# EAGLE library part XC2C256-VQ100 (library Xilinx)
*Xilinx XC2C256 Coolrunner II CPLD in a VQ100 package
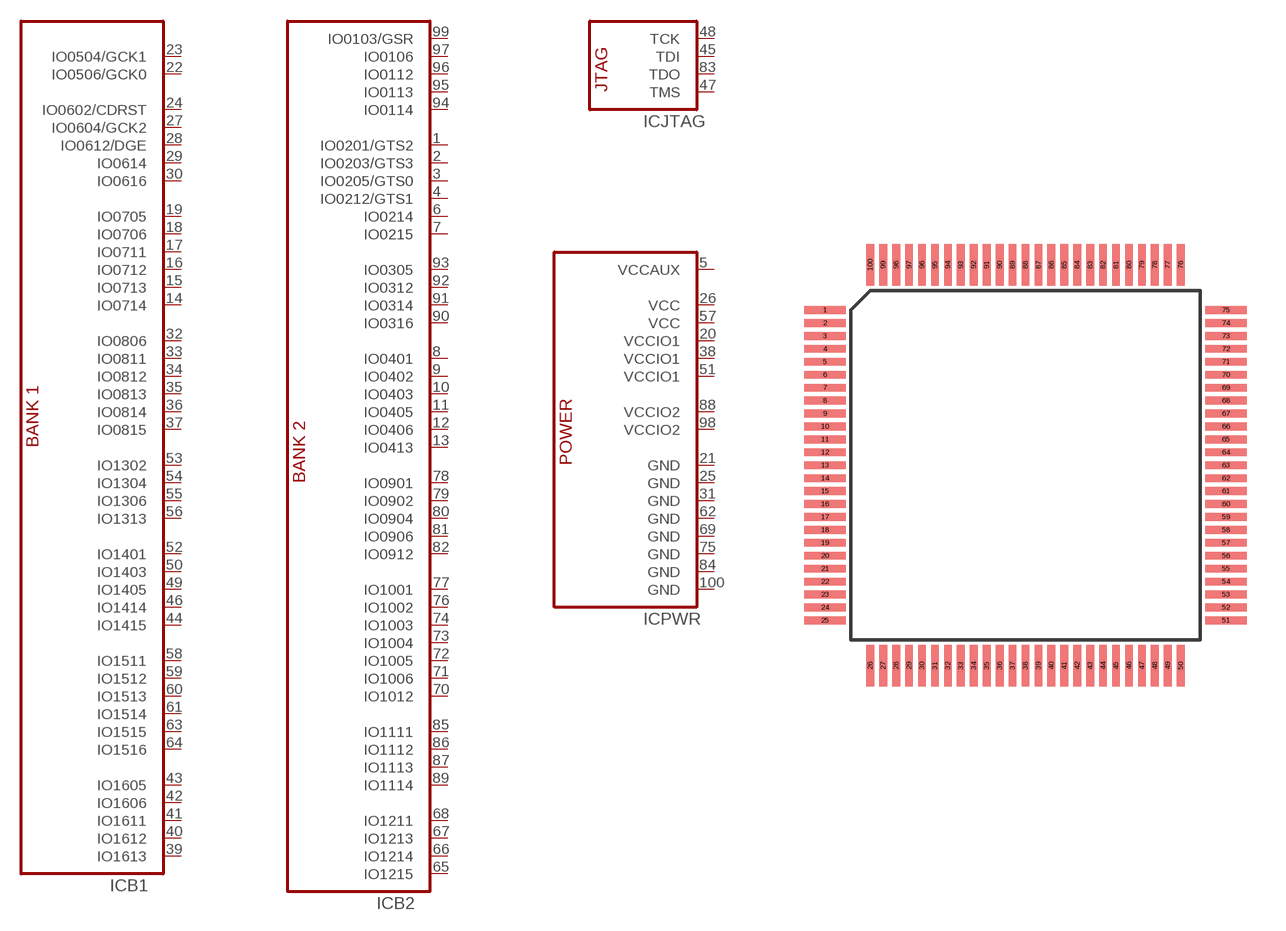
[diagram p38: symbol with the pads of VQ100; footprint VQ100]

Designator prefix IC; gates B1=XC2C256-VQ100_B1 B2=XC2C256-VQ100_B2 JTAG=XC2C256-VQ100_JTAG PWR=XC2C256-VQ100_PWR

## XC2C256-VQ100  [VQ100]
1  B2:IO0201/GTS2
2  B2:IO0203/GTS3
3  B2:IO0205/GTS0
4  B2:IO0212/GTS1
5  PWR:VCCAUX  pwr
6  B2:IO0214
7  B2:IO0215
8  B2:IO0401
9  B2:IO0402
10  B2:IO0403
11  B2:IO0405
12  B2:IO0406
13  B2:IO0413
14  B1:IO0714
15  B1:IO0713
16  B1:IO0712
17  B1:IO0711
18  B1:IO0706
19  B1:IO0705
20  PWR:VCCIO1  pwr
21  PWR:GND  pwr
22  B1:IO0506/GCK0
23  B1:IO0504/GCK1
24  B1:IO0602/CDRST
25  PWR:GND  pwr
26  PWR:VCC  pwr
27  B1:IO0604/GCK2
28  B1:IO0612/DGE
29  B1:IO0614
30  B1:IO0616
31  PWR:GND  pwr
32  B1:IO0806
33  B1:IO0811
34  B1:IO0812
35  B1:IO0813
36  B1:IO0814
37  B1:IO0815
38  PWR:VCCIO1  pwr
39  B1:IO1613
40  B1:IO1612
41  B1:IO1611
42  B1:IO1606
43  B1:IO1605
44  B1:IO1415
45  JTAG:TDI
46  B1:IO1414
47  JTAG:TMS
48  JTAG:TCK
49  B1:IO1405
50  B1:IO1403
51  PWR:VCCIO1  pwr
52  B1:IO1401
53  B1:IO1302
54  B1:IO1304
55  B1:IO1306
56  B1:IO1313
57  PWR:VCC  pwr
58  B1:IO1511
59  B1:IO1512
60  B1:IO1513
61  B1:IO1514
62  PWR:GND  pwr
63  B1:IO1515
64  B1:IO1516
65  B2:IO1215
66  B2:IO1214
67  B2:IO1213
68  B2:IO1211
69  PWR:GND  pwr
70  B2:IO1012
71  B2:IO1006
72  B2:IO1005
73  B2:IO1004
74  B2:IO1003
75  PWR:GND  pwr
76  B2:IO1002
77  B2:IO1001
78  B2:IO0901
79  B2:IO0902
80  B2:IO0904
81  B2:IO0906
82  B2:IO0912
83  JTAG:TDO
84  PWR:GND  pwr
85  B2:IO1111
86  B2:IO1112
87  B2:IO1113
88  PWR:VCCIO2  pwr
89  B2:IO1114
90  B2:IO0316
91  B2:IO0314
92  B2:IO0312
93  B2:IO0305
94  B2:IO0114
95  B2:IO0113
96  B2:IO0112
97  B2:IO0106
98  PWR:VCCIO2  pwr
99  B2:IO0103/GSR
100  PWR:GND  pwr

## Footprint VQ100 (pad centres in mm)
smd 1.6 x 0.3: 1 -7.75,6; 2 -7.75,5.5; 3 -7.75,5; 4 -7.75,4.5; 5 -7.75,4; 6 -7.75,3.5; 7 -7.75,3; 8 -7.75,2.5; 9 -7.75,2; 10 -7.75,1.5; 11 -7.75,1; 12 -7.75,0.5; 13 -7.75,0; 14 -7.75,-0.5; 15 -7.75,-1; 16 -7.75,-1.5; 17 -7.75,-2; 18 -7.75,-2.5; 19 -7.75,-3; 20 -7.75,-3.5; 21 -7.75,-4; 22 -7.75,-4.5; 23 -7.75,-5; 24 -7.75,-5.5; 25 -7.75,-6; 51 7.75,-6; 52 7.75,-5.5; 53 7.75,-5; 54 7.75,-4.5; 55 7.75,-4; 56 7.75,-3.5; 57 7.75,-3; 58 7.75,-2.5; 59 7.75,-2; 60 7.75,-1.5; 61 7.75,-1; 62 7.75,-0.5; 63 7.75,0; 64 7.75,0.5; 65 7.75,1; 66 7.75,1.5; 67 7.75,2; 68 7.75,2.5; 69 7.75,3; 70 7.75,3.5; 71 7.75,4; 72 7.75,4.5; 73 7.75,5; 74 7.75,5.5; 75 7.75,6
smd 0.3 x 1.6: 26 -6,-7.75; 27 -5.5,-7.75; 28 -5,-7.75; 29 -4.5,-7.75; 30 -4,-7.75; 31 -3.5,-7.75; 32 -3,-7.75; 33 -2.5,-7.75; 34 -2,-7.75; 35 -1.5,-7.75; 36 -1,-7.75; 37 -0.5,-7.75; 38 0,-7.75; 39 0.5,-7.75; 40 1,-7.75; 41 1.5,-7.75; 42 2,-7.75; 43 2.5,-7.75; 44 3,-7.75; 45 3.5,-7.75; 46 4,-7.75; 47 4.5,-7.75; 48 5,-7.75; 49 5.5,-7.75; 50 6,-7.75; 76 6,7.75; 77 5.5,7.75; 78 5,7.75; 79 4.5,7.75; 80 4,7.75; 81 3.5,7.75; 82 3,7.75; 83 2.5,7.75; 84 2,7.75; 85 1.5,7.75; 86 1,7.75; 87 0.5,7.75; 88 0,7.75; 89 -0.5,7.75; 90 -1,7.75; 91 -1.5,7.75; 92 -2,7.75; 93 -2.5,7.75; 94 -3,7.75; 95 -3.5,7.75; 96 -4,7.75; 97 -4.5,7.75; 98 -5,7.75; 99 -5.5,7.75; 100 -6,7.75